# Altium footprint library General.PcbLib: 53 footprints (part 1 of 4)
Each footprint in its own frame and in the unit in brackets; x right, y up, seen from the top. Pads: shape width x height; smd on the part's side, far side on the other; paste and mask are expansions set on the pad; w line width, h text height; cw(c..) or ccw(c..) is an arc to the next point about the centre after c.
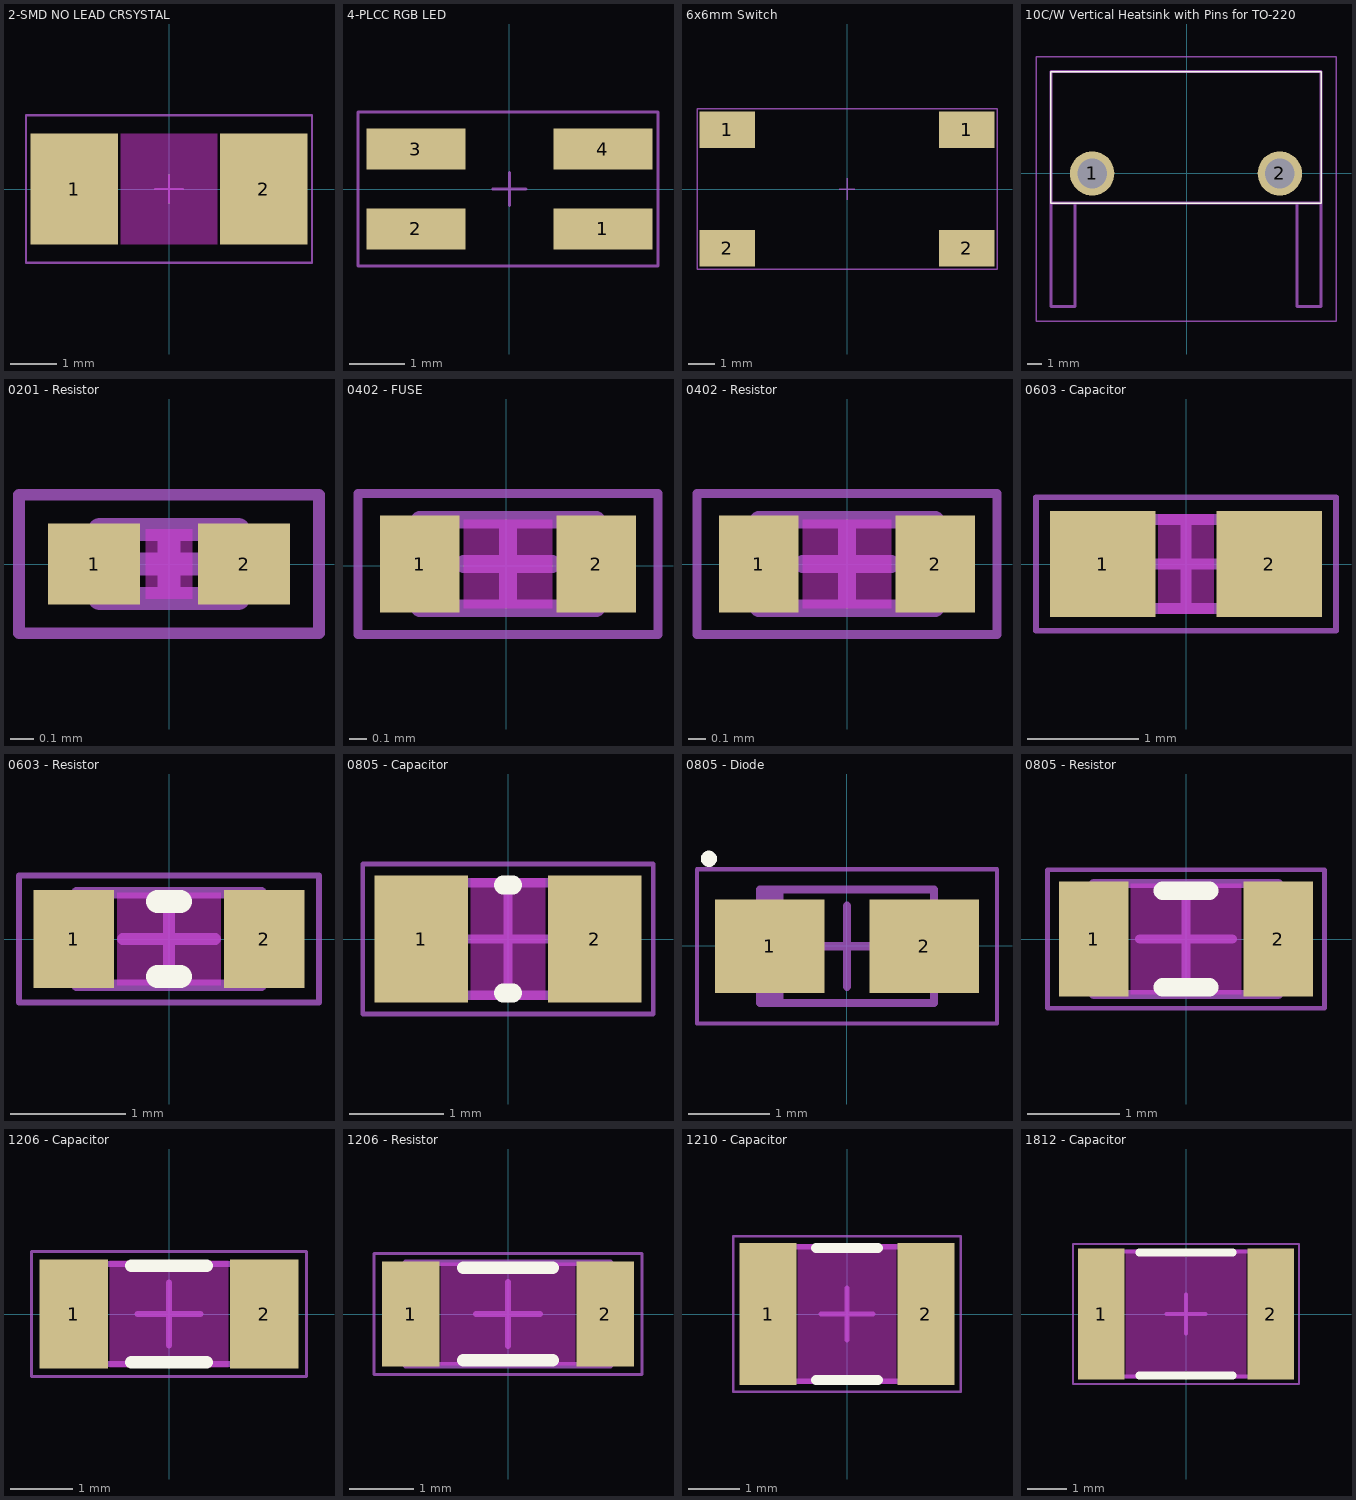
[diagram p0: the footprints below, top view; thin cyan lines are the x and y axes]

## 2-SMD NO LEAD CRSYSTAL [mm]
pads (2):
  rect 1.9x2.4 smd: 1(-2.05,0) 2(2.05,0)
Top Layer keep-out:
  region: -1.05,1.2 -1.05,-1.2 1.05,-1.2 1.05,1.2
Mechanical 15:
  lines w0.05: -0.3,0 0.3,0 ; 0,-0.3 0,0.3 ; -3.1,-1.6 3.1,-1.6 3.1,1.6 -3.1,1.6 -3.1,0.9 -3.1,-1.6
3D body "ABM3.STEP": height 1.3, standoff 0, extent -2.5,-1.6 2.5,1.6

## 4-PLCC RGB LED [mm]
pads (4):
  rect 1.8x0.75 smd: 1(1.7,-0.725) 2(-1.7,-0.725) 3(-1.7,0.725) 4(1.7,0.725)
Mechanical 15:
  lines w0.05: -0.3,0 0.3,0 ; 0,-0.3 0,0.3 ; -2.75,-1.4 2.7,-1.4 2.7,1.4 -2.5,1.4 -2.75,1.4 -2.75,-1.4
3D body "XZxxxx45.step": height 1.9, standoff 0, extent -1.75,-1.4 1.75,1.4

## 6x6mm Switch [mm]
pads (4):
  rect 2.1x1.4 smd: 1(-4.55,2.25) 1(4.55,2.25) 2(-4.55,-2.25) 2(4.55,-2.25)
Mechanical 15:
  lines w0.05: -0.3,0 0.3,0 ; 0,-0.4 0,0.4 ; -5.7,-3.05 5.7,-3.05 5.7,3.05 -5.7,3.05 -5.7,-3.05
3D body "TL3301AFxxxxG.stp": height 5.12, standoff 0.02, extent -5,-3 5,3

## 10C/W Vertical Heatsink with Pins for TO-220 [mm]
pads (2):
  round 3 hole 2: 1(-6.409,-0.011) 2(6.291,-0.011)
Top Overlay:
  lines w0.1: -9.209,-2.011 9.091,-2.011 9.091,6.889 -9.209,6.889 -9.209,-2.011
Mechanical 13:
  lines w0.2: -7.559,-2.011 -7.559,-9.011 -9.209,-9.011 -9.209,-2.011 ; 7.441,-2.011 7.441,-9.011 9.091,-9.011 9.091,-2.011 ; -9.209,-2.011 9.091,-2.011 ; -9.209,-2.011 -9.209,6.889 9.091,6.889 9.091,-2.011
Mechanical 15:
  lines w0.1: -10.209,-10.011 10.091,-10.011 10.091,7.889 -10.209,7.889 -10.209,-10.011

## 0201 - Resistor [mm] "0201 Chip Resistor - IPC Medium Density"
height 0.25
pads (2):
  rect 0.4x0.35 smd: 1(-0.325,0) 2(0.325,0)
Top Layer keep-out:
  region: -0.1,0.15 -0.1,-0.15 0.1,-0.15 0.1,0.15
Mechanical 13:
  lines w0.1: -0.3,-0.15 0.3,-0.15 0.3,0.15 -0.3,0.15 -0.3,-0.15
Mechanical 15:
  lines w0.05: -0.65,-0.3 0.65,-0.3 0.65,0.3 -0.65,0.3 -0.65,-0.3
  lines w0.1: -0.15,0 0.15,0 ; 0,-0.15 0,0.15
3D body "0201 - Resistor.step": height 0.25, standoff 0, extent -0.3,-0.15 0.3,0.15

## 0402 - FUSE [mm]
pads (2):
  rect 0.45x0.55 smd: 1(-0.49,0.01) 2(0.51,0.01)
Top Layer keep-out:
  region: -0.24,0.26 -0.24,-0.24 0.26,-0.24 0.26,0.26
Mechanical 13:
  lines w0.1: -0.49,-0.24 -0.49,0.26 0.51,0.26 0.51,-0.24 -0.49,-0.24
Mechanical 15:
  lines w0.05: -0.84,-0.39 0.86,-0.39 0.86,0.41 -0.84,0.41 -0.84,-0.39
  lines w0.1: -0.24,0.01 0.26,0.01 ; 0.01,-0.24 0.01,0.26
3D body "0402 - Resistor.step": height 0.35, standoff 0, extent -0.49,-0.24 0.51,0.26

## 0402 - Resistor [mm] "0402 Chip Resistor - IPC Medium Density"
height 0.35
pads (2):
  rect 0.45x0.55 smd: 1(-0.5,0) 2(0.5,0)
Top Layer keep-out:
  region: -0.25,0.25 -0.25,-0.25 0.25,-0.25 0.25,0.25
Mechanical 13:
  lines w0.1: -0.5,-0.25 0.5,-0.25 0.5,0.25 -0.5,0.25 -0.5,-0.25
Mechanical 15:
  lines w0.05: -0.85,-0.4 0.85,-0.4 0.85,0.4 -0.85,0.4 -0.85,-0.4
  lines w0.1: -0.25,0 0.25,0 ; 0,-0.25 0,0.25
3D body "0402 - Resistor.step": height 0.35, standoff 0, extent -0.5,-0.25 0.5,0.25

## 0603 - Capacitor [mm] "0603 Chip Capacitor - IPC Medium Density"
height 0.8
pads (2):
  rect 0.95x0.95 smd: 1(-0.75,0) 2(0.75,0)
Top Layer keep-out:
  region: -0.25,0.45 -0.25,-0.45 0.25,-0.45 0.25,0.45
Mechanical 13:
  lines w0.1: -0.8,-0.4 0.8,-0.4 0.8,0.4 -0.8,0.4 -0.8,-0.4
Mechanical 15:
  lines w0.05: -1.35,-0.6 1.35,-0.6 1.35,0.6 -1.35,0.6 -1.35,-0.6
  lines w0.1: -0.4,0 0.4,0 ; 0,-0.4 0,0.4
3D body "0603 Capacitor.step": height 0.8, standoff 0, extent -0.8,-0.4 0.8,0.4

## 0603 - Resistor [mm] "0603 Chip Resistor - IPC Medium Density"
height 0.45
pads (2):
  rect 0.7x0.85 smd: 1(-0.825,0) 2(0.825,0)
Top Layer keep-out:
  region: -0.45,0.4 -0.45,-0.4 0.45,-0.4 0.45,0.4
Top Overlay:
  lines w0.2: -0.1,-0.325 0.1,-0.325 ; -0.1,0.325 0.1,0.325
Mechanical 13:
  lines w0.1: -0.8,-0.4 0.8,-0.4 0.8,0.4 -0.8,0.4 -0.8,-0.4
Mechanical 15:
  lines w0.05: -1.3,-0.55 1.3,-0.55 1.3,0.55 -1.3,0.55 -1.3,-0.55
  lines w0.1: -0.4,0 0.4,0 ; 0,-0.4 0,0.4
3D body "0603 - Resistor.step": height 0.45, standoff 0, extent -0.8,-0.4 0.8,0.4

## 0805 - Capacitor [mm] "0805 Chip Capacitor - IPC Medium Density"
height 1.2
pads (2):
  rect 1x1.35 smd: 1(-0.925,0) 2(0.925,0)
Top Layer keep-out:
  region: -0.4,0.65 -0.4,-0.65 0.4,-0.65 0.4,0.65
Top Overlay:
  lines w0.2: -0.05,-0.575 0.05,-0.575 ; -0.05,0.575 0.05,0.575
Mechanical 13:
  lines w0.1: -1,-0.6 1,-0.6 1,0.6 -1,0.6 -1,-0.6
Mechanical 15:
  lines w0.05: -1.55,-0.8 1.55,-0.8 1.55,0.8 -1.55,0.8 -1.55,-0.8
  lines w0.1: -0.5,0 0.5,0 ; 0,-0.5 0,0.5
3D body "0805 - Capacitor.step": height 1.2, standoff 0, extent -1,-0.6 1,0.6

## 0805 - Diode [mm] "Diode"
pads (2):
  rect 1.35x1.15 smd: 1(-0.948,-0.009) 2(0.952,-0.009)
Top Overlay:
  circle w0.1: c-1.7,1.07 r0.05
Mechanical 13:
  rectangle: -1.073,-0.709 -0.784,0.691
  lines w0.1: -1.073,-0.709 -1.073,0.691 1.077,0.691 1.077,-0.709 -1.073,-0.709
Mechanical 15:
  lines w0.05: -1.848,-0.959 -1.848,0.941 1.852,0.941 1.852,-0.959 -1.848,-0.959
  lines w0.1: -0.498,-0.009 0.502,-0.009 ; 0.002,-0.509 0.002,0.491
3D body "DIODE.step": height 1.2, standoff 0, extent -1.293,-0.709 1.297,0.691

## 0805 - Resistor [mm] "0805 Chip Resistor - IPC Medium Density"
height 0.5
pads (2):
  rect 0.75x1.25 smd: 1(-1,0) 2(1,0)
Top Layer keep-out:
  region: -0.6,0.6 -0.6,-0.6 0.6,-0.6 0.6,0.6
Top Overlay:
  lines w0.2: -0.25,-0.525 0.25,-0.525 ; -0.25,0.525 0.25,0.525
Mechanical 13:
  lines w0.1: -1,-0.6 -1,0.6 1,0.6 1,-0.6 -1,-0.6
Mechanical 15:
  lines w0.05: -1.5,-0.75 -1.5,0.75 1.5,0.75 1.5,-0.75 -1.5,-0.75
  lines w0.1: -0.5,0 0.5,0 ; 0,-0.5 0,0.5
3D body "0805 Resistor.step": height 0.5, standoff 0, extent -1,-0.6 1,0.6

## 1206 - Capacitor [mm] "1206 Chip Capacitor - IPC Medium Density"
height 1.6
pads (2):
  rect 1.1x1.75 smd: 1(-1.525,0) 2(1.525,0)
Top Layer keep-out:
  region: -0.95,0.85 -0.95,-0.85 0.95,-0.85 0.95,0.85
Top Overlay:
  lines w0.2: -0.6,-0.775 0.6,-0.775 ; -0.6,0.775 0.6,0.775
Mechanical 13:
  lines w0.1: -1.65,-0.8 1.65,-0.8 1.65,0.8 -1.65,0.8 -1.65,-0.8
Mechanical 15:
  lines w0.05: -2.2,-1 2.2,-1 2.2,1 -2.2,1 -2.2,-1
  lines w0.1: -0.5,0 0.5,0 ; 0,-0.5 0,0.5
3D body "1206 - Capacitor.step": height 1.6, standoff 0, extent -1.65,-0.8 1.65,0.8

## 1206 - Resistor [mm] "1206 Chip Resistor - IPC Medium Density"
height 0.55
pads (2):
  rect 0.9x1.65 smd: 1(-1.525,0) 2(1.525,0)
Top Layer keep-out:
  region: -1.05,0.8 -1.05,-0.8 1.05,-0.8 1.05,0.8
Top Overlay:
  lines w0.2: -0.7,-0.725 0.7,-0.725 ; -0.7,0.725 0.7,0.725
Mechanical 13:
  lines w0.1: -1.6,-0.8 1.6,-0.8 1.6,0.8 -1.6,0.8 -1.6,-0.8
Mechanical 15:
  lines w0.05: -2.1,-0.95 2.1,-0.95 2.1,0.95 -2.1,0.95 -2.1,-0.95
  lines w0.1: -0.5,0 0.5,0 ; 0,-0.5 0,0.5
3D body "1206 - Resistor.step": height 0.55, standoff 0, extent -1.6,-0.8 1.6,0.8

## 1210 - Capacitor [mm] "1210 Chip Capacitor - IPC Medium Density"
height 1.6
pads (2):
  rect 1.1x2.75 smd: 1(-1.525,0) 2(1.525,0)
Top Layer keep-out:
  region: -0.95,1.35 -0.95,-1.35 0.95,-1.35 0.95,1.35
Top Overlay:
  lines w0.2: -0.6,-1.275 0.6,-1.275 ; -0.6,1.275 0.6,1.275
Mechanical 13:
  lines w0.1: -1.65,-1.3 1.65,-1.3 1.65,1.3 -1.65,1.3 -1.65,-1.3
Mechanical 15:
  lines w0.05: -2.2,-1.5 2.2,-1.5 2.2,1.5 -2.2,1.5 -2.2,-1.5
  lines w0.1: -0.5,0 0.5,0 ; 0,-0.5 0,0.5
3D body "1210 - Capacitor.step": height 1.6, standoff 0, extent -1.65,-1.3 1.65,1.3

## 1812 - Capacitor [mm] "1812 Chip Capacitor - IPC Medium Density"
height 2
pads (2):
  rect 1.2x3.35 smd: 1(-2.175,0) 2(2.175,0)
Top Layer keep-out:
  region: -1.55,1.65 -1.55,-1.65 1.55,-1.65 1.55,1.65
Top Overlay:
  lines w0.2: -1.2,-1.575 1.2,-1.575 ; -1.2,1.575 1.2,1.575
Mechanical 13:
  lines w0.1: -2.35,-1.6 -2.35,1.6 2.35,1.6 2.35,-1.6 -2.35,-1.6
Mechanical 15:
  lines w0.05: -2.9,-1.8 -2.9,1.8 2.9,1.8 2.9,-1.8 -2.9,-1.8
  lines w0.1: -0.5,0 0.5,0 ; 0,-0.5 0,0.5
3D body "1812 - Capacitor.step": height 2, standoff 0, extent -2.35,-1.6 2.35,1.6